# Altium schematic symbol library InterfaceSchLib.SchLib: 3 symbols
Pins are listed as number, name and electrical type; pins without a type are passive.

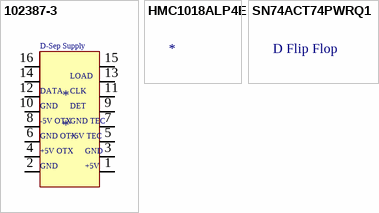
[diagram p0: symbols 102387-3 to SN74ACT74PWRQ1]

## 102387-3
designator *
Connector Housing, AMPMODU Mod IV, Receptacle, 16 Ways, 2.54 mm, Ampmodu Socket Contacts; Manufacturer: TE Connectivity; Manufacturer Part Number: 102387-3; Manufacturer Lifecycle Status: ACTIVE; Approvals: CSA; Connector Type: Receptacle, Socket; Contact Current Rating: 3A; Dielectric Material: Polyethylene; Insulation Resistance: 5GΩ; Max Voltage Rating (AC): 250V; Number of Contacts: 16; Number of Ports: 1; Pitch: 2.54mm; Shielding: No; Wire Gauge (Max): 20AWG; Wire Gauge (Min): 32AWG; Supplier: Newark; Supplier Part Number: 102387-3; RoHS: Compliant; Category: Card Edge Connectors; Stock: 1186; Pricing: 1=2.31, 10=2.13, 25=2.13, 50=2.13, 100=2.13, 500=2.13 (USD); China RoHS: Compliant; Color: Black; Contact Gender: Female; Contact Material: Copper; Current Rating: 3A; Depth: 15.24mm; ELV: Compliant; Flammability Rating: UL94 V-0; Gender: Receptacle; Height: 7.23mm; Housing Color: Black; Housing Material: Thermoplastic; Lead Free: Lead Free; Lead Pitch: 2.54mm; Length: 24.892mm; Lifecycle Status: Production; Material: Thermoplastic; Max Operating Temperature: 105°C; Min Operating Temperature: -65°C; Mounting Technology: Cable, Free Hanging; Pins: 16; Number of Positions: 16; Number of Rows: 2; Operating Supply Voltage: 250V; Orientation: Straight; Packaging: Bulk; REACH SVHC: Yes; Row Spacing: 2.54mm; Schedule B: 8538907080|8538907080|8538907080|8538907080|8538907080|8538907080|8538907080|8538907080|8538907080|8538907080|8538907080|8538907080|8538907080|8538907080|8538907080|8538907080|8538907080|8538907080|8538907080|8538907080|8538907080|8538907080|8538907080|85; Terminal Pitch: 2.54mm; Termination: Crimp; Voltage Rating (AC): 250V; Width: 7.23mm; ComponentLink1URL: https://datasheet.octopart.com:443/102387-3-TE-Connectivity-datasheet-179930347.pdf?src-supplier=IHS; ComponentLink1Description: https://datasheet.octopart.com:443/102387-3-TE-Connectivity-datasheet-179930347.pdf?src-supplier=IHS; ComponentLink2URL: https://datasheet.octopart.com:443/102387-3-TE-Connectivity-datasheet-8324834.pdf?src-supplier=Newark; ComponentLink2Description: https://datasheet.octopart.com:443/102387-3-TE-Connectivity-datasheet-8324834.pdf?src-supplier=Newark; ComponentLink3URL: https://datasheet.octopart.com:443/102387-3-TE-Connectivity-datasheet-12530356.pdf?src-supplier=Newark; ComponentLink3Description: https://datasheet.octopart.com:443/102387-3-TE-Connectivity-datasheet-12530356.pdf?src-supplier=Newark; ComponentLink4URL: https://datasheet.octopart.com:443/102387-3-Tyco-Electronics-datasheet-5314212.pdf?src-supplier=Newark; ComponentLink4Description: https://datasheet.octopart.com:443/102387-3-Tyco-Electronics-datasheet-5314212.pdf?src-supplier=Newark; ComponentLink5URL: https://datasheet.octopart.com:443/102387-3-TE-Connectivity---AMP-datasheet-501888.pdf?src-supplier=Newark; ComponentLink5Description: https://datasheet.octopart.com:443/102387-3-TE-Connectivity---AMP-datasheet-501888.pdf?src-supplier=Newark; ComponentLink6URL: https://datasheet.octopart.com:443/102387-3-TE-Connectivity---AMP-datasheet-504963.pdf?src-supplier=Newark; ComponentLink6Description: https://datasheet.octopart.com:443/102387-3-TE-Connectivity---AMP-datasheet-504963.pdf?src-supplier=Newark; ComponentLink7URL: https://datasheet.octopart.com:443/102387-3-TE-Connectivity---AMP-datasheet-517159.pdf?src-supplier=Newark; ComponentLink7Description: https://datasheet.octopart.com:443/102387-3-TE-Connectivity---AMP-datasheet-517159.pdf?src-supplier=Newark; ComponentLink8URL: https://datasheet.octopart.com:443/102387-3-TE-Connectivity---AMP-datasheet-533371.pdf?src-supplier=Newark; ComponentLink8Description: https://datasheet.octopart.com:443/102387-3-TE-Connectivity---AMP-datasheet-533371.pdf?src-supplier=Newark; ComponentLink9URL: https://datasheet.octopart.com:443/102387-3-TE-Connectivity-datasheet-13544697.pdf?src-supplier=TE+Connectivity; ComponentLink9Description: https://datasheet.octopart.com:443/102387-3-TE-Connectivity-datasheet-13544697.pdf?src-supplier=TE+Connectivity; ComponentLink10URL: https://datasheet.octopart.com:443/102387-3-Tyco-Electronics-datasheet-508243.pdf?src-supplier=Farnell; ComponentLink10Description: https://datasheet.octopart.com:443/102387-3-Tyco-Electronics-datasheet-508243.pdf?src-supplier=Farnell; ComponentLink11URL: https://datasheet.octopart.com:443/102387-3-Tyco-Electronics-datasheet-13545548.pdf?src-supplier=Farnell; ComponentLink11Description: https://datasheet.octopart.com:443/102387-3-Tyco-Electronics-datasheet-13545548.pdf?src-supplier=Farnell; ComponentLink12URL: https://datasheet.octopart.com:443/102387-3-AMP-datasheet-175456472.pdf?src-supplier=Burklin+Elektronik; ComponentLink12Description: https://datasheet.octopart.com:443/102387-3-AMP-datasheet-175456472.pdf?src-supplier=Burklin+Elektronik; ComponentLink13URL: https://datasheet.octopart.com:443/102387-3-AMP-datasheet-165055485.pdf?src-supplier=Burklin+Elektronik; ComponentLink13Description: https://datasheet.octopart.com:443/102387-3-AMP-datasheet-165055485.pdf?src-supplier=Burklin+Elektronik; ComponentLink14URL: https://datasheet.octopart.com:443/102387-3-TE-Connectivity-datasheet-20824226.pdf?src-supplier=RS+(Formerly+Allied+Electronics); ComponentLink14Description: https://datasheet.octopart.com:443/102387-3-TE-Connectivity-datasheet-20824226.pdf?src-supplier=RS+(Formerly+Allied+Electronics); ComponentLink15URL: https://datasheet.octopart.com:443/102387-3-Tyco-Electronics-datasheet-9800146.pdf?src-supplier=RS+(Formerly+Allied+Electronics); ComponentLink15Description: https://datasheet.octopart.com:443/102387-3-Tyco-Electronics-datasheet-9800146.pdf?src-supplier=RS+(Formerly+Allied+Electronics); ComponentLink16URL: https://datasheet.octopart.com:443/102387-3-Tyco-Electronics-datasheet-98395.pdf?src-supplier=RS+(Formerly+Allied+Electronics); ComponentLink16Description: https://datasheet.octopart.com:443/102387-3-Tyco-Electronics-datasheet-98395.pdf?src-supplier=RS+(Formerly+Allied+Electronics); ComponentLink17URL: https://datasheet.octopart.com:443/102387-3-TE-Connectivity---AMP-datasheet-189108356.pdf?src-supplier=Master+Electronics; ComponentLink17Description: https://datasheet.octopart.com:443/102387-3-TE-Connectivity---AMP-datasheet-189108356.pdf?src-supplier=Master+Electronics; ComponentLink18URL: https://datasheet.octopart.com:443/102387-3-Tyco-Electronics-datasheet-7276557.pdf?src-supplier=Jameco; ComponentLink18Description: https://datasheet.octopart.com:443/102387-3-Tyco-Electronics-datasheet-7276557.pdf?src-supplier=Jameco; ComponentLink19URL: http://sigma.octopart.com:80/38774052/materials_sheet/TE-Connectivity-102387-3.pdf?src-supplier=Compliance+Statements; ComponentLink19Description: http://sigma.octopart.com:80/38774052/materials_sheet/TE-Connectivity-102387-3.pdf?src-supplier=Compliance+Statements; ComponentLink20URL: http://sigma.octopart.com:80/38774051/materials_sheet/TE-Connectivity-102387-3.pdf?src-supplier=Compliance+Statements; ComponentLink20Description: http://sigma.octopart.com:80/38774051/materials_sheet/TE-Connectivity-102387-3.pdf?src-supplier=Compliance+Statements; ComponentLink21URL: http://sigma.octopart.com:80/77882325/materials_sheet/TE-Connectivity-102387-3.pdf?src-supplier=Compliance+Statements; ComponentLink21Description: http://sigma.octopart.com:80/77882325/materials_sheet/TE-Connectivity-102387-3.pdf?src-supplier=Compliance+Statements; ComponentLink22URL: http://sigma.octopart.com:80/15106472/rohs_certificate/Agastat-102387-3.pdf?src-supplier=Compliance+Statements; ComponentLink22Description: http://sigma.octopart.com:80/15106472/rohs_certificate/Agastat-102387-3.pdf?src-supplier=Compliance+Statements
pins: 1, 2, 3, 4, 5, 6, 7, 8, 9, 10, 11, 12, 13, 14, 15, 16
text: D-Sep Supply; LOAD; DATA; CLK; GND; DET; -5V OTX; GND TEC; GND OTX; +5V TEC; +5V OTX; +5V

## HMC1018ALP4E
designator *  (value not drawn)
RF ATTENUATOR 31DB 24VFQFN RF Attenuators 31dB 100 MHz ~ 30 GHz 24-VFQFN Exposed Pad; Manufacturer: Analog Devices; Manufacturer Part Number: HMC1018ALP4E; Manufacturer Lifecycle Status: PRODUCTION; Bandwidth: 29.9GHz; Clock Frequency: 30GHz; Supplier: DigiKey; Supplier Part Number: 1127-3175-ND; RoHS: Compliant; Category: RF Attenuators; Stock: 56; Pricing: 1=152.25, 10=134.351, 25=128.1644 (USD); Height: 1mm; Lead Free: Contains Lead; Lifecycle Status: Production; Max Operating Temperature: 85°C; Min Operating Temperature: -40°C; Pins: 24; Schedule B: 8542390000, 8542390000|8542390000|8542390000|8542390000|8542390000; ComponentLink1URL: https://octopart.com:443/opatz8j6/c1?t=o5VMY3pvONkKsxLCEpRMn1LRZ62chlNKSE1MNe6ma_UHOyn7qNUWycdGJ-4E01Ldb-Uc5Q4JS8hkdvRhPt_0TeQRoYjavoYDacV1XhyoLB6GK9yxnkgnbBwCd5im_3o8loBI4Lo2LgLrtuOYDfsZgJEHYb_JYOf5wdPzyMkqLIx4jBWiKv3SbTybTzfrmSa0hOdCAtN7rFXZI5SMirSDpF48SjgZT4Yz1mBiAyCMTB3hsCGiHchswQIK7pZpvCsCxp0dX1XW2DFNBIU85aTZsid9j2uuzhX8hnbSi6gSuWX_Mec5d_DwfHY&src-supplier=Analog+Devices; ComponentLink1Description: https://octopart.com:443/opatz8j6/c1?t=o5VMY3pvONkKsxLCEpRMn1LRZ62chlNKSE1MNe6ma_UHOyn7qNUWycdGJ-4E01Ldb-Uc5Q4JS8hkdvRhPt_0TeQRoYjavoYDacV1XhyoLB6GK9yxnkgnbBwCd5im_3o8loBI4Lo2LgLrtuOYDfsZgJEHYb_JYOf5wdPzyMkqLIx4jBWiKv3SbTybTzfrmSa0hOdCAtN7rFXZI5SMirSDpF48SjgZT4Yz1mBiAyCMTB3hsCGiHchswQIK7pZpvCsCxp0dX1XW2DFNBIU85aTZsid9j2uuzhX8hnbSi6gSuWX_Mec5d_DwfHY&src-supplier=Analog+Devices; ComponentLink2URL: https://datasheet.octopart.com:443/HMC1018ALP4E-Analog-Devices-datasheet-62096698.pdf?src-supplier=Analog+Devices; ComponentLink2Description: https://datasheet.octopart.com:443/HMC1018ALP4E-Analog-Devices-datasheet-62096698.pdf?src-supplier=Analog+Devices; ComponentLink3URL: https://datasheet.octopart.com:443/HMC1018ALP4E-Analog-Devices-datasheet-155853680.pdf?src-supplier=element14+APAC; ComponentLink3Description: https://datasheet.octopart.com:443/HMC1018ALP4E-Analog-Devices-datasheet-155853680.pdf?src-supplier=element14+APAC; ComponentLink4URL: https://sigma.octopart.com:443/138896342/technical_drawing/Analog-Devices-HMC1018ALP4E.pdf?src-supplier=Upverter; ComponentLink4Description: https://sigma.octopart.com:443/138896342/technical_drawing/Analog-Devices-HMC1018ALP4E.pdf?src-supplier=Upverter; ComponentLink5URL: http://sigma.octopart.com:80/conflict_mineral_statement/Analog-Devices-company-33.pdf?src-supplier=Compliance+Statements; ComponentLink5Description: http://sigma.octopart.com:80/conflict_mineral_statement/Analog-Devices-company-33.pdf?src-supplier=Compliance+Statements; ComponentLink6URL: https://octopart.com:443/opatz8j6/c1?t=2sJlLsE9VxE_KSqcS1KEOFv4KpyTvz-Ez7fTYsMiNWQdSQpmpebSjPfCed_at8Hv-jUpqXN80Rpoz9WbvecKG20z9ort-PLUYyhwcAF6fm-hZLNxaiSX8hOaXSorotNrv-V2YqIxehM_EZU0fSP6zdQAfKRDmbvtqkhOrwF1X6EJerWGQD-YOB5XJOdOyHNblfUYeygsxtsfOuwOuEaMNK-z2-A26LCrO5lFZ54rB90Oi31n_EKxvcU2CHilUZMXgeIKTTupYxxLibC-PdU8yvW9oUKvh4cO143I3kavtS-AYObnGiNfyLI&src-supplier=Compliance+Statements; ComponentLink6Description: https://octopart.com:443/opatz8j6/c1?t=2sJlLsE9VxE_KSqcS1KEOFv4KpyTvz-Ez7fTYsMiNWQdSQpmpebSjPfCed_at8Hv-jUpqXN80Rpoz9WbvecKG20z9ort-PLUYyhwcAF6fm-hZLNxaiSX8hOaXSorotNrv-V2YqIxehM_EZU0fSP6zdQAfKRDmbvtqkhOrwF1X6EJerWGQD-YOB5XJOdOyHNblfUYeygsxtsfOuwOuEaMNK-z2-A26LCrO5lFZ54rB90Oi31n_EKxvcU2CHilUZMXgeIKTTupYxxLibC-PdU8yvW9oUKvh4cO143I3kavtS-AYObnGiNfyLI&src-supplier=Compliance+Statements

## SN74ACT74PWRQ1
designator D Flip Flop
Automotive dual positive-edge-triggered D-type flip-flops with clear and preset 14-TSSOP -40 to 125; Manufacturer: Texas Instruments; Manufacturer Part Number: SN74ACT74PWRQ1; Manufacturer Lifecycle Status: ACTIVE; Supplier: DigiKey; Supplier Part Number: 296-SN74ACT74PWRQ1CT-ND; RoHS: Compliant; Category: Latches and Flip Flops; Stock: 3000; Pricing: 1=0.54, 10=0.383, 25=0.3428, 100=0.2983, 250=0.27712, 500=0.26436, 1000=0.25704 (USD); Case/Package: TSSOP; Height: 0m; Length: 5mm; Lifecycle Status: Production; Pins: 14; Thickness: 1mm; Width: 4.4mm; ComponentLink1URL: https://sigma.octopart.com:443/182471031/technical_drawing/Texas-Instruments-SN74ACT74PWRQ1.pdf?src-supplier=Texas+Instruments; ComponentLink1Description: https://sigma.octopart.com:443/182471031/technical_drawing/Texas-Instruments-SN74ACT74PWRQ1.pdf?src-supplier=Texas+Instruments; ComponentLink2URL: https://octopart.com:443/opatz8j6/c1?t=c3nx0RWqKdLQ68wVvWOaNJz3rIVgE85WiDxg0j0pQ1yMTy9nggoDoocCZ6gsN1ZWEt5iuqF-Ofi96IuS-IKjPFp6OZBTP88bmK645a6QP0LHTiX8to5ZoxnfhKm2Eng29tbh4Inh392fwQwFp4qo5eUlCqb7wqioQi-tGOFH1US3JDCQZcFjii_K3_r08tqTRIjmVhwB7dKsmdI2gA6Xsd2dZE5i4onQn-_PakORmyLPGbZkfNQF_IFrflDqh5QW__uEf67ze1y0P3lta5pbvhxlDgKfX2OWZ--hlL_X0Lk4jePeqzVZKMWNTtubEPBU5TRiEvWVP1Y00ecitWxVU4R7BYPMoUoOo1KfgbDo9UfCetEejQfjYNNmknLLoyZqX1nt54NpX8BwKw&src-supplier=Texas+Instruments; ComponentLink2Description: https://octopart.com:443/opatz8j6/c1?t=c3nx0RWqKdLQ68wVvWOaNJz3rIVgE85WiDxg0j0pQ1yMTy9nggoDoocCZ6gsN1ZWEt5iuqF-Ofi96IuS-IKjPFp6OZBTP88bmK645a6QP0LHTiX8to5ZoxnfhKm2Eng29tbh4Inh392fwQwFp4qo5eUlCqb7wqioQi-tGOFH1US3JDCQZcFjii_K3_r08tqTRIjmVhwB7dKsmdI2gA6Xsd2dZE5i4onQn-_PakORmyLPGbZkfNQF_IFrflDqh5QW__uEf67ze1y0P3lta5pbvhxlDgKfX2OWZ--hlL_X0Lk4jePeqzVZKMWNTtubEPBU5TRiEvWVP1Y00ecitWxVU4R7BYPMoUoOo1KfgbDo9UfCetEejQfjYNNmknLLoyZqX1nt54NpX8BwKw&src-supplier=Texas+Instruments; ComponentLink3URL: http://sigma.octopart.com:80/conflict_mineral_statement/Texas-Instruments-company-63.pdf?src-supplier=Compliance+Statements; ComponentLink3Description: http://sigma.octopart.com:80/conflict_mineral_statement/Texas-Instruments-company-63.pdf?src-supplier=Compliance+Statements; ComponentLink4URL: http://sigma.octopart.com:80/reach_statement/Texas-Instruments-company-64.pdf?src-supplier=Compliance+Statements; ComponentLink4Description: http://sigma.octopart.com:80/reach_statement/Texas-Instruments-company-64.pdf?src-supplier=Compliance+Statements